# EAGLE library part STMICROELECTRONICS-MICROCONTROLLER-STM32L431RCT6 (library Module_ICs)
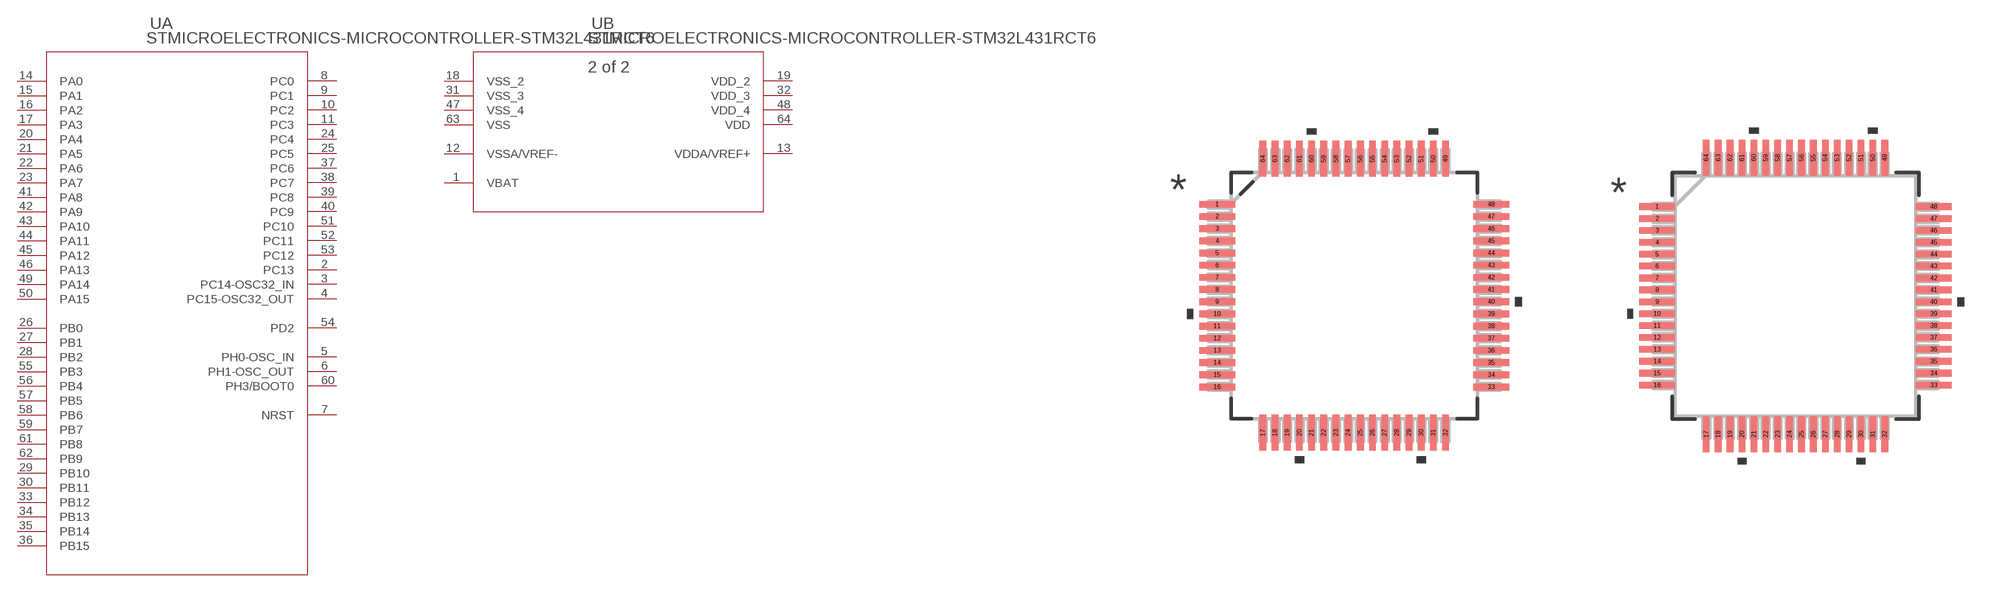
[diagram p78: symbol with the pads of LQFP-64; footprints LQFP-64, LQFP-64-M]

Designator prefix U; gates A=STM32L4_LQFP64_T7 B=STM32L4_LQFP64_T7_1

## STMICROELECTRONICS-MICROCONTROLLER-STM32L431RCT6 (BUILT_BY: EMA_UL_Team; COPYRIGHT: Copyright (C) 2018 Accelerated Designs. All rights reserved; MANUFACTURER_PART_NUMBER: STM32L431RCT6; SOURCELIBRARY: Updates_to_database_2020-10-19; VENDOR: STMicroelectronics)  [LQFP-64]
1  B:VBAT  pwr
2  A:PC13
3  A:PC14-OSC32_IN
4  A:PC15-OSC32_OUT
5  A:PH0-OSC_IN
6  A:PH1-OSC_OUT
7  A:NRST
8  A:PC0
9  A:PC1
10  A:PC2
11  A:PC3
12  B:VSSA/VREF-  pwr
13  B:VDDA/VREF+  pwr
14  A:PA0
15  A:PA1
16  A:PA2
17  A:PA3
18  B:VSS_2  pwr
19  B:VDD_2  pwr
20  A:PA4
21  A:PA5
22  A:PA6
23  A:PA7
24  A:PC4
25  A:PC5
26  A:PB0
27  A:PB1
28  A:PB2
29  A:PB10
30  A:PB11
31  B:VSS_3  pwr
32  B:VDD_3  pwr
33  A:PB12
34  A:PB13
35  A:PB14
36  A:PB15
37  A:PC6
38  A:PC7
39  A:PC8
40  A:PC9
41  A:PA8
42  A:PA9
43  A:PA10
44  A:PA11
45  A:PA12
46  A:PA13
47  B:VSS_4  pwr
48  B:VDD_4  pwr
49  A:PA14
50  A:PA15
51  A:PC10
52  A:PC11
53  A:PC12
54  A:PD2
55  A:PB3
56  A:PB4
57  A:PB5
58  A:PB6
59  A:PB7
60  A:PH3/BOOT0
61  A:PB8
62  A:PB9
63  B:VSS  pwr
64  B:VDD  pwr

## STMICROELECTRONICS-MICROCONTROLLER-STM32L431RCT6LQFP-64-M (BUILT_BY: EMA_UL_Team; COPYRIGHT: Copyright (C) 2018 Accelerated Designs. All rights reserved; MANUFACTURER_PART_NUMBER: STM32L431RCT6; SOURCELIBRARY: Updates_to_database_2020-10-19; VENDOR: STMicroelectronics)  [LQFP-64-M]
Pads as for LQFP-64

## STMICROELECTRONICS-MICROCONTROLLER-STM32L431RCT6LQFP-64-L (BUILT_BY: EMA_UL_Team; COPYRIGHT: Copyright (C) 2018 Accelerated Designs. All rights reserved; MANUFACTURER_PART_NUMBER: STM32L431RCT6; SOURCELIBRARY: Updates_to_database_2020-10-19; VENDOR: STMicroelectronics)  [LQFP-64-L]
Pads as for LQFP-64

## Footprint LQFP-64 (pad centres in mm)
smd 1.473 x 0.279: 1 -5.626,3.75; 2 -5.626,3.25; 3 -5.626,2.75; 4 -5.626,2.25; 5 -5.626,1.75; 6 -5.626,1.25; 7 -5.626,0.75; 8 -5.626,0.25; 9 -5.626,-0.25; 10 -5.626,-0.75; 11 -5.626,-1.25; 12 -5.626,-1.75; 13 -5.626,-2.25; 14 -5.626,-2.75; 15 -5.626,-3.25; 16 -5.626,-3.75; 33 5.626,-3.75; 34 5.626,-3.25; 35 5.626,-2.75; 36 5.626,-2.25; 37 5.626,-1.75; 38 5.626,-1.25; 39 5.626,-0.75; 40 5.626,-0.25; 41 5.626,0.25; 42 5.626,0.75; 43 5.626,1.25; 44 5.626,1.75; 45 5.626,2.25; 46 5.626,2.75; 47 5.626,3.25; 48 5.626,3.75
smd 0.279 x 1.473: 17 -3.75,-5.626; 18 -3.25,-5.626; 19 -2.75,-5.626; 20 -2.25,-5.626; 21 -1.75,-5.626; 22 -1.25,-5.626; 23 -0.75,-5.626; 24 -0.25,-5.626; 25 0.25,-5.626; 26 0.75,-5.626; 27 1.25,-5.626; 28 1.75,-5.626; 29 2.25,-5.626; 30 2.75,-5.626; 31 3.25,-5.626; 32 3.75,-5.626; 49 3.75,5.626; 50 3.25,5.626; 51 2.75,5.626; 52 2.25,5.626; 53 1.75,5.626; 54 1.25,5.626; 55 0.75,5.626; 56 0.25,5.626; 57 -0.25,5.626; 58 -0.75,5.626; 59 -1.25,5.626; 60 -1.75,5.626; 61 -2.25,5.626; 62 -2.75,5.626; 63 -3.25,5.626; 64 -3.75,5.626

## Footprint LQFP-64-M (pad centres in mm)
smd 1.511 x 0.279: 1 -5.81,3.75; 2 -5.81,3.25; 3 -5.81,2.75; 4 -5.81,2.25; 5 -5.81,1.75; 6 -5.81,1.25; 7 -5.81,0.75; 8 -5.81,0.25; 9 -5.81,-0.25; 10 -5.81,-0.75; 11 -5.81,-1.25; 12 -5.81,-1.75; 13 -5.81,-2.25; 14 -5.81,-2.75; 15 -5.81,-3.25; 16 -5.81,-3.75; 33 5.81,-3.75; 34 5.81,-3.25; 35 5.81,-2.75; 36 5.81,-2.25; 37 5.81,-1.75; 38 5.81,-1.25; 39 5.81,-0.75; 40 5.81,-0.25; 41 5.81,0.25; 42 5.81,0.75; 43 5.81,1.25; 44 5.81,1.75; 45 5.81,2.25; 46 5.81,2.75; 47 5.81,3.25; 48 5.81,3.75
smd 0.279 x 1.511: 17 -3.75,-5.81; 18 -3.25,-5.81; 19 -2.75,-5.81; 20 -2.25,-5.81; 21 -1.75,-5.81; 22 -1.25,-5.81; 23 -0.75,-5.81; 24 -0.25,-5.81; 25 0.25,-5.81; 26 0.75,-5.81; 27 1.25,-5.81; 28 1.75,-5.81; 29 2.25,-5.81; 30 2.75,-5.81; 31 3.25,-5.81; 32 3.75,-5.81; 49 3.75,5.81; 50 3.25,5.81; 51 2.75,5.81; 52 2.25,5.81; 53 1.75,5.81; 54 1.25,5.81; 55 0.75,5.81; 56 0.25,5.81; 57 -0.25,5.81; 58 -0.75,5.81; 59 -1.25,5.81; 60 -1.75,5.81; 61 -2.25,5.81; 62 -2.75,5.81; 63 -3.25,5.81; 64 -3.75,5.81

## Footprint LQFP-64-L (pad centres in mm)
smd 1.105 x 0.229: 1 -5.607,3.75; 2 -5.607,3.25; 3 -5.607,2.75; 4 -5.607,2.25; 5 -5.607,1.75; 6 -5.607,1.25; 7 -5.607,0.75; 8 -5.607,0.25; 9 -5.607,-0.25; 10 -5.607,-0.75; 11 -5.607,-1.25; 12 -5.607,-1.75; 13 -5.607,-2.25; 14 -5.607,-2.75; 15 -5.607,-3.25; 16 -5.607,-3.75; 33 5.607,-3.75; 34 5.607,-3.25; 35 5.607,-2.75; 36 5.607,-2.25; 37 5.607,-1.75; 38 5.607,-1.25; 39 5.607,-0.75; 40 5.607,-0.25; 41 5.607,0.25; 42 5.607,0.75; 43 5.607,1.25; 44 5.607,1.75; 45 5.607,2.25; 46 5.607,2.75; 47 5.607,3.25; 48 5.607,3.75
smd 0.229 x 1.105: 17 -3.75,-5.607; 18 -3.25,-5.607; 19 -2.75,-5.607; 20 -2.25,-5.607; 21 -1.75,-5.607; 22 -1.25,-5.607; 23 -0.75,-5.607; 24 -0.25,-5.607; 25 0.25,-5.607; 26 0.75,-5.607; 27 1.25,-5.607; 28 1.75,-5.607; 29 2.25,-5.607; 30 2.75,-5.607; 31 3.25,-5.607; 32 3.75,-5.607; 49 3.75,5.607; 50 3.25,5.607; 51 2.75,5.607; 52 2.25,5.607; 53 1.75,5.607; 54 1.25,5.607; 55 0.75,5.607; 56 0.25,5.607; 57 -0.25,5.607; 58 -0.75,5.607; 59 -1.25,5.607; 60 -1.75,5.607; 61 -2.25,5.607; 62 -2.75,5.607; 63 -3.25,5.607; 64 -3.75,5.607